# EAGLE library part NHD-C0216CU-FN-GBW-3V (library nhd-wje)
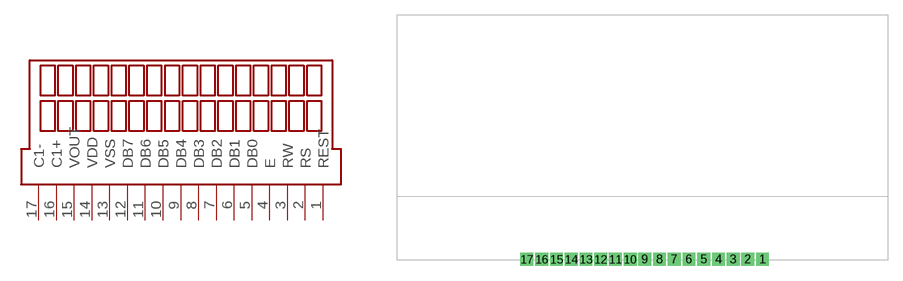
[diagram p0: symbol with the pads of SIL17-1.5; footprint SIL17-1.5]

Designator prefix -

## NHD-C0216CU-FN-GBW-3V  [SIL17-1.5]
1  REST
2  RS
3  RW
4  E
5  DB0
6  DB1
7  DB2
8  DB3
9  DB4
10  DB5
11  DB6
12  DB7
13  VSS  pwr
14  VDD  pwr
15  VOUT  out
16  C1+
17  C1-

## Footprint SIL17-1.5 (pad centres in mm)
drill 0.8 square: 1 17.739,0.064; 2 16.239,0.064; 3 14.739,0.064; 4 13.239,0.064; 5 11.739,0.064; 6 10.239,0.064; 7 8.739,0.064; 8 7.239,0.064; 9 5.737,0.064; 10 4.237,0.064; 11 2.737,0.064; 12 1.238,0.064; 13 -0.263,0.064; 14 -1.762,0.064; 15 -3.263,0.064; 16 -4.763,0.064; 17 -6.287,0.064